# Altium footprint library M3-PCB-96-H-5X5.5.PcbLib: 1 footprints
Each footprint in its own frame and in the unit in brackets; x right, y up, seen from the top. Pads: shape width x height; smd on the part's side, far side on the other; paste and mask are expansions set on the pad; w line width, h text height; cw(c..) or ccw(c..) is an arc to the next point about the centre after c.
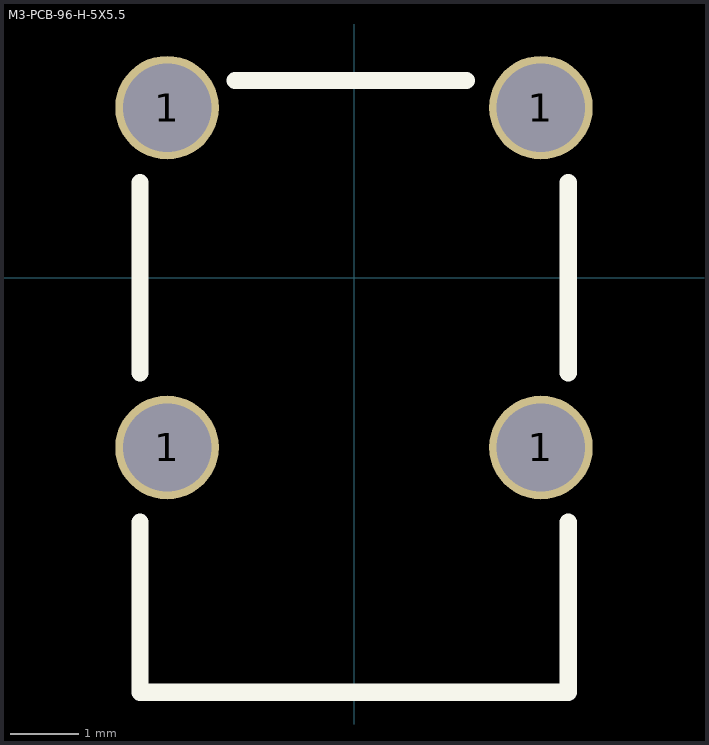
[diagram p0: the footprint, top view; thin cyan lines are the x and y axes]

## M3-PCB-96-H-5X5.5 [mil]
pads (4):
  round 60 hole 51.18: 1(-108.27,-98.42) 1(-108.27,98.42) 1(108.27,-98.42) 1(108.27,98.42)
Top Overlay:
  lines w10: -124.02,-141.73 -124.02,-240.16 124.02,-240.16 124.02,-141.73 ; -124.02,-55.12 -124.02,55.12 ; -68.9,114.17 64.96,114.17 ; 124.02,-55.12 124.02,55.12